# Altium footprint library DF20160711.PcbLib: 86 footprints (part 5 of 6)
Each footprint in its own frame and in the unit in brackets; x right, y up, seen from the top. Pads: shape width x height; smd on the part's side, far side on the other; paste and mask are expansions set on the pad; w line width, h text height; cw(c..) or ccw(c..) is an arc to the next point about the centre after c.
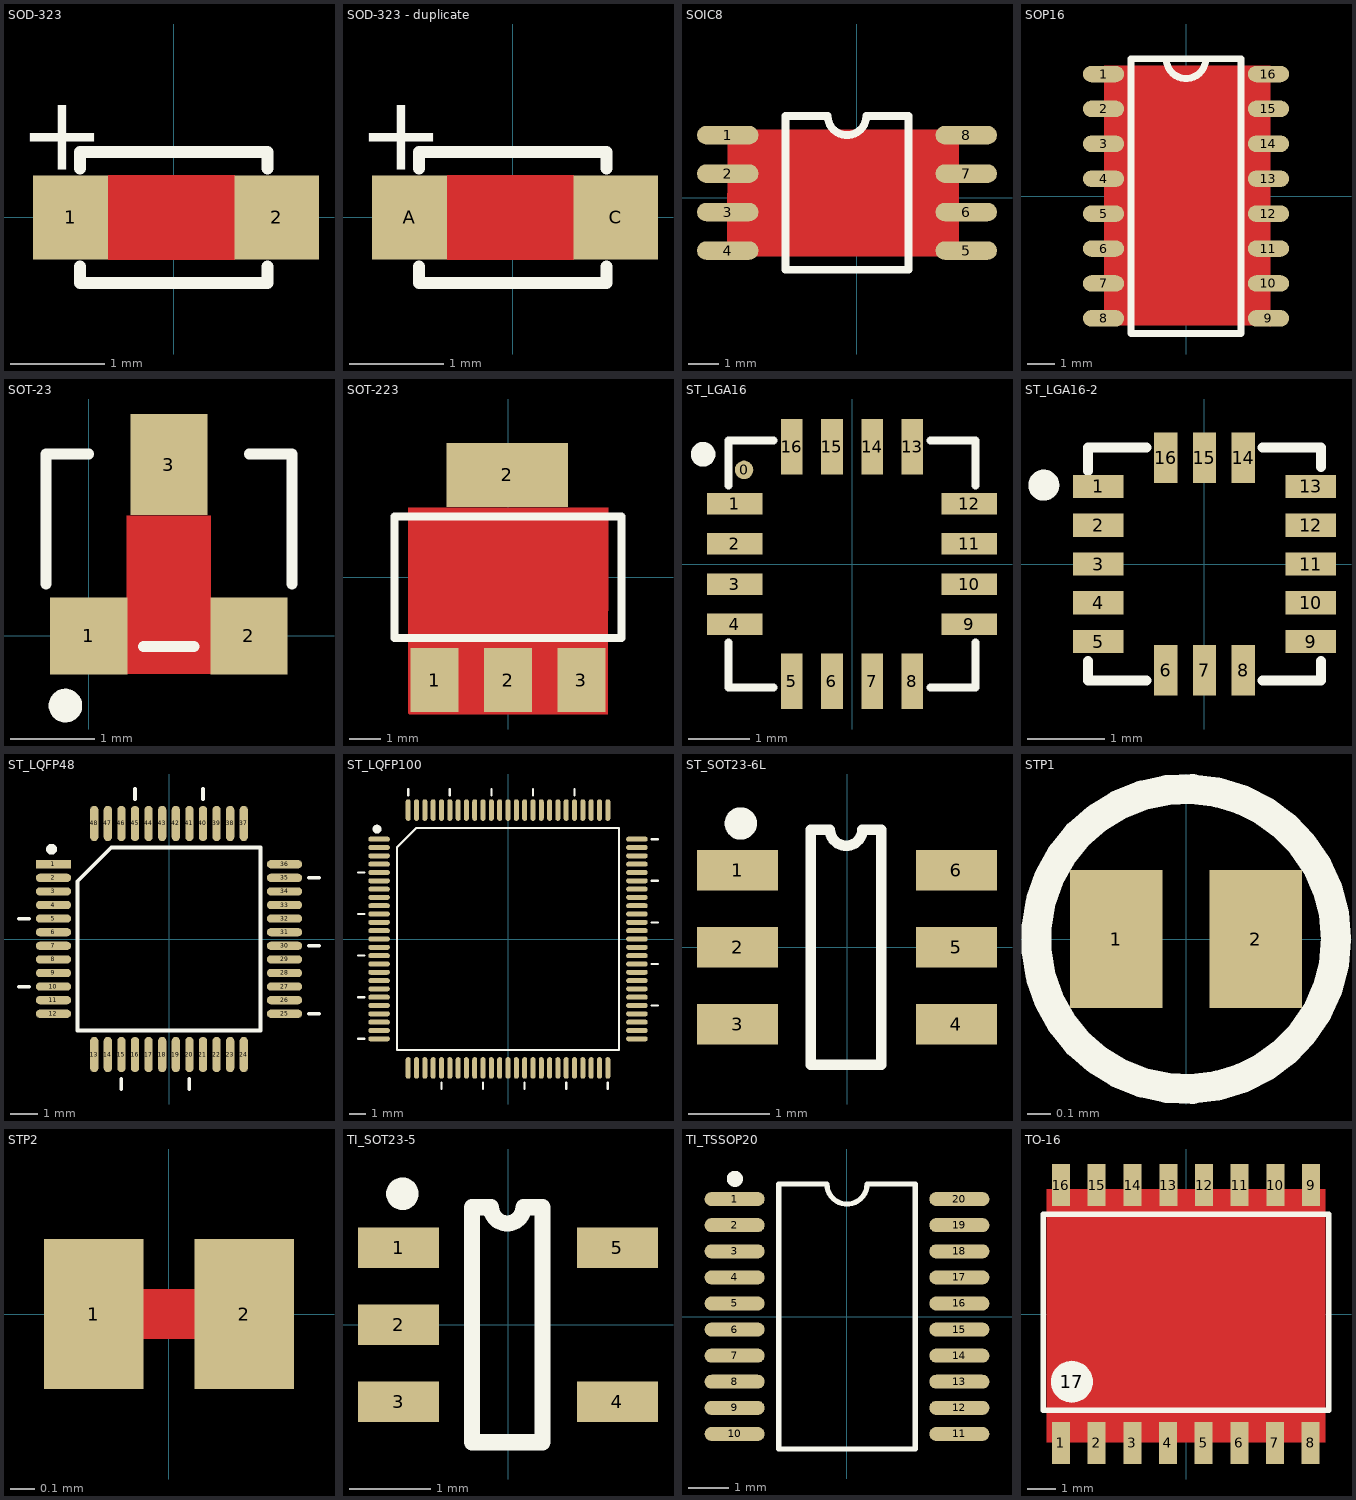
[diagram p4: the footprints below, top view; thin cyan lines are the x and y axes]

## SOD-323 [mm]
pads (2):
  rect 0.8x0.9 smd: 1(-1.1,0)
  rect 0.9x0.9 smd: 2(1.1,0)
Top Layer:
  pour cut-out: -0.7,0.45 0.65,0.45 0.65,-0.45 -0.7,-0.45
Top Overlay:
  lines w0.13: -1,-0.524 -1,-0.7 1,-0.7 1,-0.524 ; -1,0.524 -1,0.7 1,0.7 1,0.524
  text "+" at -1.651,0.508 h0.8

## SOD-323 - duplicate [mm]
pads (2):
  rect 0.8x0.9 smd: A(-1.1,0)
  rect 0.9x0.9 smd: C(1.1,0)
Top Layer:
  pour cut-out: -0.7,0.45 0.65,0.45 0.65,-0.45 -0.7,-0.45
Top Overlay:
  lines w0.13: -1,-0.524 -1,-0.7 1,-0.7 1,-0.524 ; -1,0.524 -1,0.7 1,0.7 1,0.524
  text "+" at -1.651,0.508 h0.8

## SOIC8 [mil]
pads (8):
  oval 80x24 smd: 1(-167.7,81.2) 2(-167.7,31.2) 3(-167.7,-18.8) 4(-167.7,-68.8) 5(142.3,-68.8) 6(142.3,-18.8) 7(142.3,31.2) 8(142.3,81.2)
Top Layer:
  pour cut-out: -167.8,88.2 -167.45,88.55 132.35,88.55 132.35,-76.75 131.65,-76.05 -168.15,-76.05
Top Overlay:
  lines w10: -92.7,-93.8 67.3,-93.8 67.3,106.2 12.3,106.2 cw(c-12.7,106.2) -37.7,106.2 -92.7,106.2 -92.7,-93.8

## SOP16 [mm]
pads (16):
  oval 1.5x0.6 smd: 1(-3,4.445) 2(-3,3.175) 3(-3,1.905) 4(-3,0.635) 5(-3,-0.635) 6(-3,-1.905) 7(-3,-3.175) 8(-3,-4.445) 9(3,-4.445) 10(3,-3.175) 11(3,-1.905) 12(3,-0.635) 13(3,0.635) 14(3,1.905) 15(3,3.175) 16(3,4.445)
Top Layer:
  pour cut-out: -2.972,4.737 3.061,4.737 3.061,-4.75 2.997,-4.686 -2.972,-4.686
Top Overlay:
  lines w0.254: -0.718,5 ccw(c0,5) 0.718,5 ; -2,-5 2,-5 2,5 -2,5 -2,-5

## SOT-23 [mil]
height 51.18
pads (3):
  rect 36x36 smd: 1(0,0) 2(74.8,0)
  rect 36x47.24 smd: 3(37.4,80)
Top Layer:
  pour cut-out: 17.72,-17.72 57.09,-17.72 57.09,56.1 17.72,56.1
Top Overlay:
  circle w7.87: c-10.91,-32.6 r3.94
  lines w5.12: -20,24.25 -20,85 0,85 ; 25.59,-5 49.21,-5 ; 75,85 95,85 95,24.25

## SOT-223 [mil]
pads (4):
  rect 59x79 smd: 1(-90.55,-126.77) 2(0,-126.77) 3(90.55,-126.77)
  rect 150x79 smd: 2(-0.67,126.77)
Top Layer:
  pour cut-out: 123,-168.5 -122,-168.5 -123,-167.5 -123,86 124,86
Top Overlay:
  lines w10: -140,-74.77 -140,75.23 140,75.23 140,-74.77 -140,-74.77

## ST_LGA16 [mm]
pads (17):
  round 0.3 smd: 0(-1.75,1.525)
  rect 0.9x0.35 smd: 1(-1.9,0.975) 2(-1.9,0.325) 3(-1.9,-0.325) 4(-1.9,-0.975) 9(1.9,-0.975) 10(1.9,-0.325) 11(1.9,0.325) 12(1.9,0.975)
  rect 0.35x0.9 smd: 5(-0.975,-1.9) 6(-0.325,-1.9) 7(0.325,-1.9) 8(0.975,-1.9) 13(0.975,1.9) 14(0.325,1.9) 15(-0.325,1.9) 16(-0.975,1.9)
Top Overlay:
  circle w0.2: c-2.413,1.778 r0.1
  lines w0.13: -2,-1.27 -2,-2 -1.27,-2 ; -2,1.27 -2,2 -1.27,2 ; 1.27,-2 2,-2 2,-1.27 ; 1.27,2 2,2 2,1.27

## ST_LGA16-2 [mm]
height 0.8
pads (16):
  rect 0.65x0.3 smd: 1(-1.37,1) 2(-1.37,0.5) 3(-1.37,0) 4(-1.37,-0.5) 5(-1.37,-1) 9(1.37,-1) 10(1.37,-0.5) 11(1.37,0) 12(1.37,0.5) 13(1.37,1)
  rect 0.3x0.65 smd: 6(-0.5,-1.37) 7(0,-1.37) 8(0.5,-1.37) 14(0.5,1.37) 15(0,1.37) 16(-0.5,1.37)
Top Overlay:
  circle w0.2: c-2.071,1.016 r0.1
  lines w0.13: -1.5,-1.25 -1.5,-1.5 -0.75,-1.5 ; -1.5,1.2 -1.5,1.5 -0.75,1.5 ; 0.75,-1.5 1.5,-1.5 1.5,-1.25 ; 0.75,1.5 1.5,1.5 1.5,1.25

## ST_LQFP48 [mm]
pads (48):
  rect 1.3x0.3 smd: 1(-4.25,2.75)
  oval 1.3x0.3 smd: 2(-4.25,2.25) 3(-4.25,1.75) 4(-4.25,1.25) 5(-4.25,0.75) 6(-4.25,0.25) 7(-4.25,-0.25) 8(-4.25,-0.75) 9(-4.25,-1.25) 10(-4.25,-1.75) 11(-4.25,-2.25) 12(-4.25,-2.75) 25(4.25,-2.75) 26(4.25,-2.25) 27(4.25,-1.75) 28(4.25,-1.25) 29(4.25,-0.75) 30(4.25,-0.25) 31(4.25,0.25) 32(4.25,0.75) 33(4.25,1.25) 34(4.25,1.75) 35(4.25,2.25) 36(4.25,2.75)
  oval 0.3x1.3 smd: 13(-2.75,-4.25) 14(-2.25,-4.25) 15(-1.75,-4.25) 16(-1.25,-4.25) 17(-0.75,-4.25) 18(-0.25,-4.25) 19(0.25,-4.25) 20(0.75,-4.25) 21(1.25,-4.25) 22(1.75,-4.25) 23(2.25,-4.25) 24(2.75,-4.25) 37(2.75,4.25) 38(2.25,4.25) 39(1.75,4.25) 40(1.25,4.25) 41(0.75,4.25) 42(0.25,4.25) 43(-0.25,4.25) 44(-0.75,4.25) 45(-1.25,4.25) 46(-1.75,4.25) 47(-2.25,4.25) 48(-2.75,4.25)
Top Overlay:
  circle w0.2: c-4.318,3.302 r0.1
  lines w0.13: -5.517,-1.75 -5.136,-1.75 ; -5.517,0.75 -5.136,0.75 ; -1.75,-5.517 -1.75,-5.136 ; -1.25,5.136 -1.25,5.517 ; 0.75,-5.517 0.75,-5.136 ; 1.25,5.136 1.25,5.517 ; 5.136,-2.75 5.517,-2.75 ; 5.136,-0.25 5.517,-0.25 ; 5.136,2.25 5.517,2.25 ; -3.365,-3.365 3.365,-3.365 3.365,3.365 -2.13,3.365 -3.365,2.13 -3.365,-3.365

## ST_LQFP100 [mm]
height 0.8
pads (100):
  oval 1.3x0.3 smd: 1(-7.75,6) 2(-7.75,5.5) 3(-7.75,5) 4(-7.75,4.5) 5(-7.75,4) 6(-7.75,3.5) 7(-7.75,3) 8(-7.75,2.5) 9(-7.75,2) 10(-7.75,1.5) 11(-7.75,1) 12(-7.75,0.5) 13(-7.75,0) 14(-7.75,-0.5) 15(-7.75,-1) 16(-7.75,-1.5) 17(-7.75,-2) 18(-7.75,-2.5) 19(-7.75,-3) 20(-7.75,-3.5) 21(-7.75,-4) 22(-7.75,-4.5) 23(-7.75,-5) 24(-7.75,-5.5) 25(-7.75,-6) 51(7.75,-6) 52(7.75,-5.5) 53(7.75,-5) 54(7.75,-4.5) 55(7.75,-4) 56(7.75,-3.5) 57(7.75,-3) 58(7.75,-2.5) 59(7.75,-2) 60(7.75,-1.5) 61(7.75,-1) 62(7.75,-0.5) 63(7.75,0) 64(7.75,0.5) 65(7.75,1) 66(7.75,1.5) 67(7.75,2) 68(7.75,2.5) 69(7.75,3) 70(7.75,3.5) 71(7.75,4) 72(7.75,4.5) 73(7.75,5) 74(7.75,5.5) 75(7.75,6)
  oval 0.3x1.3 smd: 26(-6,-7.75) 27(-5.5,-7.75) 28(-5,-7.75) 29(-4.5,-7.75) 30(-4,-7.75) 31(-3.5,-7.75) 32(-3,-7.75) 33(-2.5,-7.75) 34(-2,-7.75) 35(-1.5,-7.75) 36(-1,-7.75) 37(-0.5,-7.75) 38(0,-7.75) 39(0.5,-7.75) 40(1,-7.75) 41(1.5,-7.75) 42(2,-7.75) 43(2.5,-7.75) 44(3,-7.75) 45(3.5,-7.75) 46(4,-7.75) 47(4.5,-7.75) 48(5,-7.75) 49(5.5,-7.75) 50(6,-7.75) 76(6,7.75) 77(5.5,7.75) 78(5,7.75) 79(4.5,7.75) 80(4,7.75) 81(3.5,7.75) 82(3,7.75) 83(2.5,7.75) 84(2,7.75) 85(1.5,7.75) 86(1,7.75) 87(0.5,7.75) 88(0,7.75) 89(-0.5,7.75) 90(-1,7.75) 91(-1.5,7.75) 92(-2,7.75) 93(-2.5,7.75) 94(-3,7.75) 95(-3.5,7.75) 96(-4,7.75) 97(-4.5,7.75) 98(-5,7.75) 99(-5.5,7.75) 100(-6,7.75)
Top Overlay:
  circle w0.25: c-7.874,6.604 r0.14
  lines w0.13: -9.017,-6 -8.636,-6 ; -9.017,-3.5 -8.636,-3.5 ; -9.017,-1 -8.636,-1 ; -9.017,1.5 -8.636,1.5 ; -9.017,4 -8.636,4 ; -6,8.636 -6,9.017 ; -4,-9.017 -4,-8.636 ; -3.5,8.636 -3.5,9.017 ; -1.5,-9.017 -1.5,-8.636 ; -1,8.636 -1,9.017 ; 1,-9.017 1,-8.636 ; 1.5,8.636 1.5,9.017 ; 3.5,-9.017 3.5,-8.636 ; 4,8.636 4,9.017 ; 6,-9.017 6,-8.636 ; 8.636,-4 9.017,-4 ; 8.636,-1.5 9.017,-1.5 ; 8.636,1 9.017,1 ; 8.636,3.5 9.017,3.5 ; 8.636,6 9.017,6 ; -6.665,-6.665 -6.665,5.53 -5.53,6.665 6.665,6.665 6.665,-6.665 -6.665,-6.665

## ST_SOT23-6L [mm]
pads (6):
  rect 1x0.5 smd: 1(-1.35,0.95) 2(-1.35,0) 3(-1.35,-0.95) 4(1.35,-0.95) 5(1.35,0) 6(1.35,0.95)
Top Overlay:
  circle w0.2: c-1.31,1.525 r0.1
  lines w0.13: -0.445,-1.45 0.425,-1.45 0.425,1.45 0.19,1.45 cw(c-0.01,1.45) -0.21,1.45 -0.445,1.45 -0.445,-1.45

## STP1 [mm]
height 0.8
pads (2):
  rect 0.4x0.6 smd: 1(-0.302,0) 2(0.302,0)
Top Overlay:
  circle w0.13: c0,0 r0.65

## STP2 [mm]
height 0.8
pads (2):
  rect 0.4x0.6 smd: 1(-0.302,0) 2(0.302,0)
Top Layer:
  lines w0.2: -0.302,0 0.302,0

## TI_SOT23-5 [mm]
height 1.3
pads (5):
  rect 1x0.5 smd: 1(-1.35,0.95) 2(-1.35,0) 3(-1.35,-0.95) 4(1.35,-0.95) 5(1.35,0.95)
Top Overlay:
  circle w0.2: c-1.303,1.616 r0.1
  lines w0.2: -0.445,-1.45 0.425,-1.45 0.425,1.45 0.19,1.45 cw(c-0.01,1.45) -0.21,1.45 -0.445,1.45 -0.445,-1.45

## TI_TSSOP20 [mm] "TSOP, 20-Leads, Body 6.5x4.4mm, Pitch 0.65mm, IPC High Density"
height 1.2
pads (20):
  oval 1.5x0.35 smd: 1(-2.8,2.925) 2(-2.8,2.275) 3(-2.8,1.625) 4(-2.8,0.975) 5(-2.8,0.325) 6(-2.8,-0.325) 7(-2.8,-0.975) 8(-2.8,-1.625) 9(-2.8,-2.275) 10(-2.8,-2.925) 11(2.8,-2.925) 12(2.8,-2.275) 13(2.8,-1.625) 14(2.8,-0.975) 15(2.8,-0.325) 16(2.8,0.325) 17(2.8,0.975) 18(2.8,1.625) 19(2.8,2.275) 20(2.8,2.925)
Top Overlay:
  circle w0.2: c-2.794,3.429 r0.1
  lines w0.13: -1.7,-3.3 1.7,-3.3 1.7,3.3 0.5,3.3 cw(c0,3.3) -0.5,3.3 -1.7,3.3 -1.7,-3.3

## TO-16 [mm]
pads (17):
  rect 0.64x1.5 smd: 1(-4.453,-4.591) 2(-3.183,-4.591) 3(-1.913,-4.591) 4(-0.643,-4.591) 5(0.627,-4.591) 6(1.897,-4.591) 7(3.167,-4.591) 8(4.437,-4.591) 9(4.453,4.591) 10(3.183,4.591) 11(1.913,4.591) 12(0.643,4.591) 13(-0.627,4.591) 14(-1.897,4.591) 15(-3.183,4.591) 16(-4.453,4.589)
  round 1.5 on Top Overlay: 17(-4.064,-2.413)
Top Layer:
  pour cut-out: -4.953,4.445 4.953,4.445 4.953,-4.572 -4.953,-4.572
Top Overlay:
  lines w0.2: -5.08,-3.429 -5.08,3.556 5.08,3.556 5.08,-3.429 -5.08,-3.429